# Altium schematic symbol library Jameskathrein_HubProModel_v1.x.SCHLIB: 2 symbols
Pins are listed as number, name and electrical type; pins without a type are passive.

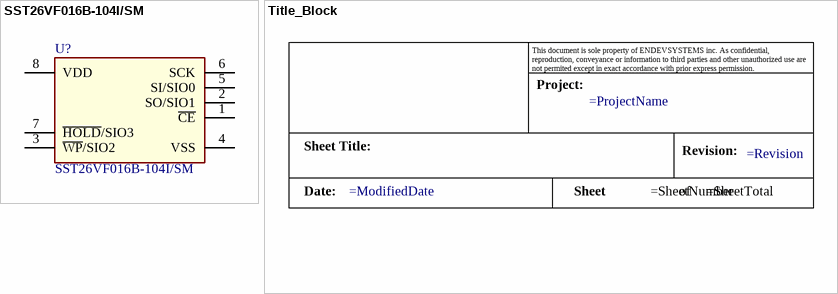
[diagram p0: symbols SST26VF016B-104I/SM to Title_Block]

## SST26VF016B-104I/SM
designator U?
IC FLASH 16MBIT SPI/QUAD 8SOIJ
footprint SOIC127P794X203-8N
pins: 1 ~{CE}, 2 SO/SIO1, 3 ~{WP}/SIO2, 4 VSS, 5 SI/SIO0, 6 SCK, 7 ~{HOLD}/SIO3, 8 VDD

## Title_Block
designator ??  (value not drawn)  (graphical)
Date:: =ModifiedDate; Revision:: =Revision; Project:: =ProjectName
text: This document is sole property of ENDEVSYSTEMS inc. As confidential, reproduction, conveyance or information to third parties and other unauthorized use are not permited except in exact accordance with prior express permission.; Project:; Sheet Title:; Revision:; Date:; Sheet; of